# Altium footprint library APX811-31UG-7.PcbLib: 3 footprints
Each footprint in its own frame and in the unit in brackets; x right, y up, seen from the top. Pads: shape width x height; smd on the part's side, far side on the other; paste and mask are expansions set on the pad; w line width, h text height; cw(c..) or ccw(c..) is an arc to the next point about the centre after c.
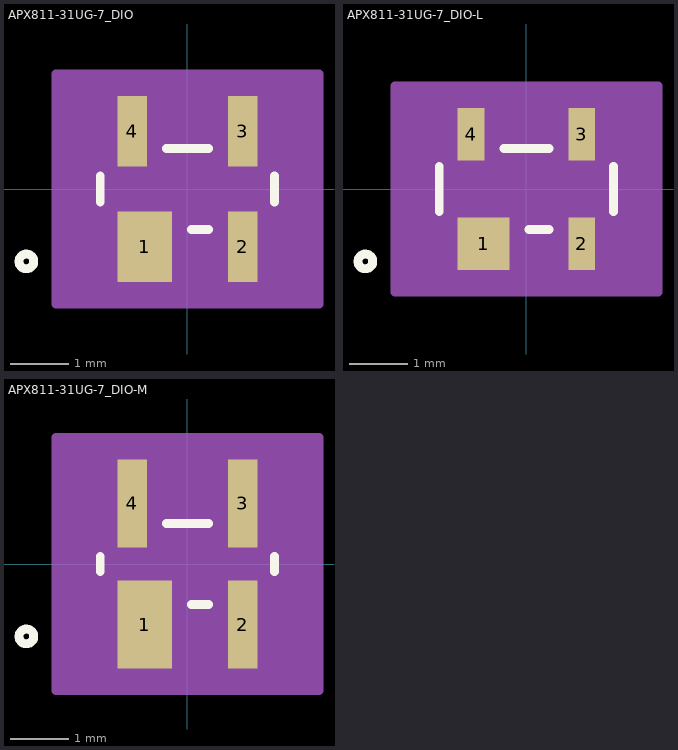
[diagram p0: the footprints below, top view; thin cyan lines are the x and y axes]

## APX811-31UG-7_DIO [mil]
pads (4):
  rect 37x47.56 smd paste+0 mask+0: 1(-29,-39)
  rect 20x47.56 smd paste+0 mask+0: 2(37.5,-39) 3(37.5,39) 4(-37.5,39)
Top Overlay:
  circle w6: c-109,-49 r5
  lines w6: -59,-8.95 -59,8.95 ; -14.4,27.5 14.4,27.5 ; 2.6,-27.5 14.4,-27.5 ; 59,-8.95 59,8.95
  text ".Designator" at -137.5,-25 h50
Mechanical 13:
  circle w1: c-49,-17.5 r5
  lines w1: -59,-27.5 59,-27.5 59,27.5 -59,27.5 -59,-27.5 ; -47.5,-49 -47.5,-27.5 -10.5,-27.5 -10.5,-49 -47.5,-49 ; -47.5,27.5 -27.5,27.5 -27.5,49 -47.5,49 -47.5,27.5 ; 27.5,-49 27.5,-27.5 47.5,-27.5 47.5,-49 27.5,-49 ; 27.5,27.5 47.5,27.5 47.5,49 27.5,49 27.5,27.5
  text ".Designator" at -137.5,-25 h50
Mechanical 15:
  region: -89,-77.78 -89,77.78 89,77.78 89,-77.78
  lines w6: -89,-77.78 89,-77.78 89,77.78 -89,77.78 -89,-77.78
3D body "APX811-31UG-7_DIO.step": height 39.09, standoff 0, extent -59.02,-49.02 59.02,49.02

## APX811-31UG-7_DIO-L [mil]
pads (4):
  rect 35.03x35.75 smd paste+0 mask+0: 1(-29,-37.03)
  rect 18.03x35.75 smd paste+0 mask+0: 2(37.5,-37.03) 3(37.5,37.03) 4(-37.5,37.03)
Top Overlay:
  circle w6: c-109,-49 r5
  lines w6: -59,-15.19 -59,15.19 ; -15.38,27.5 15.38,27.5 ; 1.62,-27.5 15.38,-27.5 ; 59,-15.19 59,15.19
  text ".Designator" at -137.5,-25 h50
Mechanical 13:
  circle w1: c-49,-17.5 r5
  lines w1: -59,-27.5 59,-27.5 59,27.5 -59,27.5 -59,-27.5 ; -47.5,-49 -47.5,-27.5 -10.5,-27.5 -10.5,-49 -47.5,-49 ; -47.5,27.5 -27.5,27.5 -27.5,49 -47.5,49 -47.5,27.5 ; 27.5,-49 27.5,-27.5 47.5,-27.5 47.5,-49 27.5,-49 ; 27.5,27.5 47.5,27.5 47.5,49 27.5,49 27.5,27.5
  text ".Designator" at -137.5,-25 h50
Mechanical 15:
  region: -89,-69.91 -89,69.91 89,69.91 89,-69.91
  lines w6: -89,-69.91 89,-69.91 89,69.91 -89,69.91 -89,-69.91
3D body "APX811-31UG-7_DIO.step": height 39.09, standoff 0, extent -59.02,-49.02 59.02,49.02

## APX811-31UG-7_DIO-M [mil]
pads (4):
  rect 37x59.37 smd paste+0 mask+0: 1(-29,-40.97)
  rect 20x59.37 smd paste+0 mask+0: 2(37.5,-40.97) 3(37.5,40.97) 4(-37.5,40.97)
Top Overlay:
  circle w6: c-109,-49 r5
  lines w6: -59,-5.01 -59,5.01 ; -14.4,27.5 14.4,27.5 ; 2.6,-27.5 14.4,-27.5 ; 59,-5.01 59,5.01
  text ".Designator" at -137.5,-25 h50
Mechanical 13:
  circle w1: c-49,-17.5 r5
  lines w1: -59,-27.5 59,-27.5 59,27.5 -59,27.5 -59,-27.5 ; -47.5,-49 -47.5,-27.5 -10.5,-27.5 -10.5,-49 -47.5,-49 ; -47.5,27.5 -27.5,27.5 -27.5,49 -47.5,49 -47.5,27.5 ; 27.5,-49 27.5,-27.5 47.5,-27.5 47.5,-49 27.5,-49 ; 27.5,27.5 47.5,27.5 47.5,49 27.5,49 27.5,27.5
  text ".Designator" at -137.5,-25 h50
Mechanical 15:
  region: -89,-85.65 -89,85.65 89,85.65 89,-85.65
  lines w6: -89,-85.65 89,-85.65 89,85.65 -89,85.65 -89,-85.65
3D body "APX811-31UG-7_DIO.step": height 39.09, standoff 0, extent -59.02,-49.02 59.02,49.02